# Altium footprint library TLP352.PcbLib: 1 footprints
Each footprint in its own frame and in the unit in brackets; x right, y up, seen from the top. Pads: shape width x height; smd on the part's side, far side on the other; paste and mask are expansions set on the pad; w line width, h text height; cw(c..) or ccw(c..) is an arc to the next point about the centre after c.
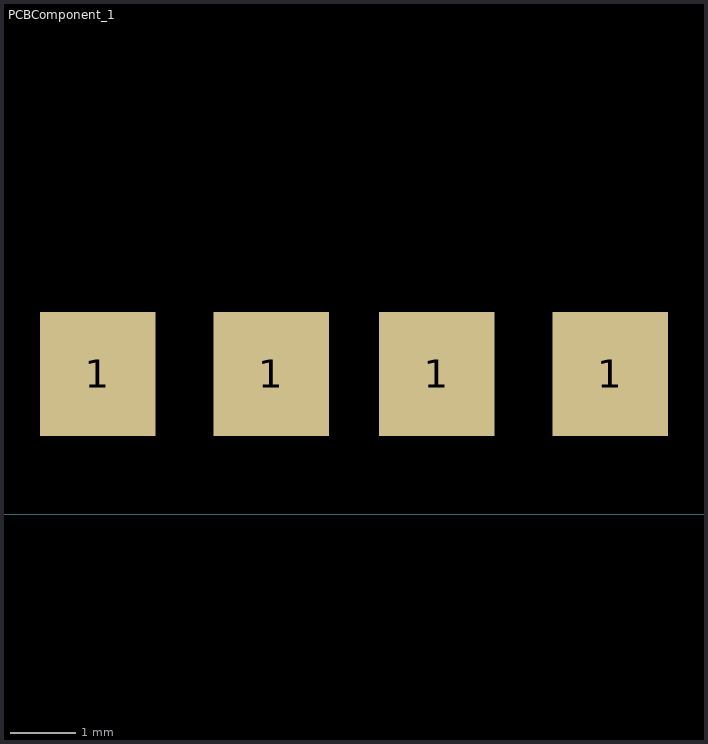
[diagram p0: the footprint, top view; thin cyan lines are the x and y axes]

## PCBComponent_1 [mil]
pads (4):
  rect 70x75 smd: 1(515,85) 1(620,85) 1(720,85) 1(825,85)
3D body "TLP352(LF1).STEP": height 157.48, standoff 0, extent 474.84,-281.85 855.16,111.85